# Altium footprint library pads15l_pcb.PcbLib: 13 footprints
Each footprint in its own frame and in the unit in brackets; x right, y up, seen from the top. Pads: shape width x height; smd on the part's side, far side on the other; paste and mask are expansions set on the pad; w line width, h text height; cw(c..) or ccw(c..) is an arc to the next point about the centre after c.
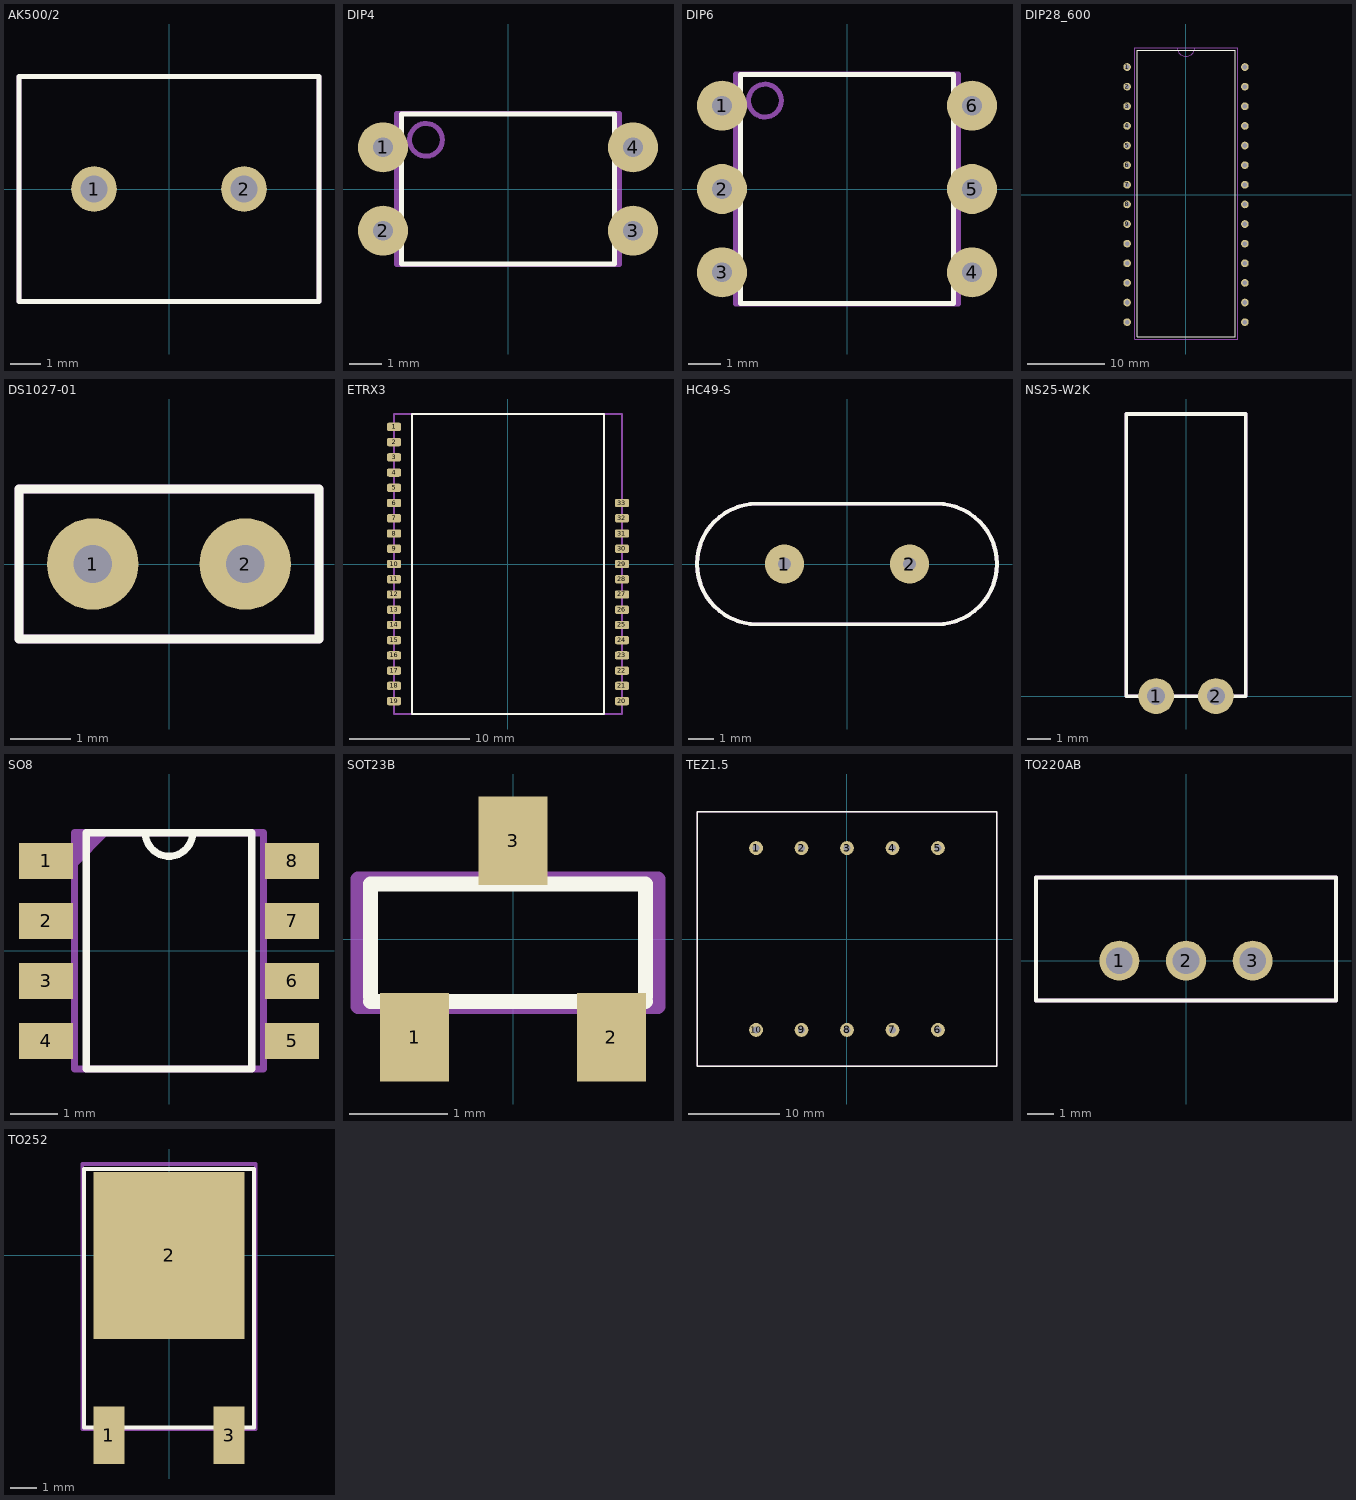
[diagram p0: the footprints below, top view; thin cyan lines are the x and y axes]

## AK500/2 [mm] "AK500/2 connector"
pads (2):
  round 1.524 hole 0.9: 1(-2.5,0) 2(2.5,0)
Top Overlay:
  lines w0.152: -5,-3.75 -5,3.75 5,3.75 5,-3.75 -5,-3.75
Mechanical 13:
  lines w0.152: -5,-3.75 -5,3.75 5,3.75 5,-3.75 -5,-3.75
3D body: height 10, standoff 0, extent -5,-3.75 5,3.75

## DIP4 [mil] "Casing DIP4"
pads (4):
  round 60 hole 23.62: 1(-150,50) 2(-150,-50) 3(150,-50) 4(150,50)
Top Overlay:
  lines w6: -127.95,-90.16 -127.95,90.16 127.95,90.16 127.95,-90.16 -127.95,-90.16
Mechanical 13:
  circle w6: c-98.43,59.06 r19.69
  lines w6: -133.86,-90.75 -133.86,90.75 133.86,90.75 133.86,-90.75 -133.86,-90.75
3D body: height 169.29, standoff -106.3, extent -155.12,-90.36 155.11,90.37

## DIP6 [mil] "Casing DIP6"
pads (6):
  round 60 hole 23.62: 1(-150,100) 2(-150,0) 3(-150,-100) 4(150,-100) 5(150,0) 6(150,100)
Top Overlay:
  lines w6: -127.95,-137.2 -127.95,137.2 127.95,137.2 127.95,-137.2 -127.95,-137.2
Mechanical 13:
  circle w6: c-98.43,106.1 r19.69
  lines w6: -133.86,-137.8 -133.86,137.8 133.86,137.8 133.86,-137.8 -133.86,-137.8
3D body: height 208.66, standoff -78.74, extent -154.92,-138.58 154.92,141.73

## DIP28_600 [mm] "DIP28 for ATmega8L-8PU"
height 4.45
pads (28):
  round 1 hole 0.6: 1(-7.62,16.51) 2(-7.62,13.97) 3(-7.62,11.43) 4(-7.62,8.89) 5(-7.62,6.35) 6(-7.62,3.81) 7(-7.62,1.27) 8(-7.62,-1.27) 9(-7.62,-3.81) 10(-7.62,-6.35) 11(-7.62,-8.89) 12(-7.62,-11.43) 13(-7.62,-13.97) 14(-7.62,-16.51) 15(7.62,-16.51) 16(7.62,-13.97) 17(7.62,-11.43) 18(7.62,-8.89) 19(7.62,-6.35) 20(7.62,-3.81) 21(7.62,-1.27) 22(7.62,1.27) 23(7.62,3.81) 24(7.62,6.35) 25(7.62,8.89) 26(7.62,11.43) 27(7.62,13.97) 28(7.62,16.51)
Top Overlay:
  lines w0.152: -6.32,-18.39 6.38,-18.39 6.38,18.71 -6.32,18.71 -6.32,-18.39
Mechanical 13:
  lines w0.152: -1.127,19.01 ccw(c0,19.01) 1.127,19.01 ; -6.62,-18.69 -6.62,19.01 6.68,19.01 6.68,-18.69 -6.62,-18.69
3D body: height 5.7, standoff -2.58, extent -7.8,-18.6 7.69,18.7

## DS1027-01 [mil] "2.54 mm Jumper"
pads (2):
  round 60 hole 25.2: 1(-50,0) 2(50,0)
Top Overlay:
  lines w6: -98.43,-49.21 -98.43,49.21 98.43,49.21 98.43,-49.21 -98.43,-49.21
Mechanical 13:
  lines w6: -98.43,-49.21 -98.43,49.21 98.43,49.21 98.43,-49.21 -98.43,-49.21
3D body: height 295.28, standoff 0, extent -98.43,-49.21 98.43,49.21

## ETRX3 [mm] "Casing for ETRX3 modules"
pads (33):
  rrect50% 1.2x0.7 smd: 1(-9.5,11.43) 2(-9.5,10.16) 3(-9.5,8.89) 4(-9.5,7.62) 5(-9.5,6.35) 6(-9.5,5.08) 7(-9.5,3.81) 8(-9.5,2.54) 9(-9.5,1.27) 10(-9.5,0) 11(-9.5,-1.27) 12(-9.5,-2.54) 13(-9.5,-3.81) 14(-9.5,-5.08) 15(-9.5,-6.35) 16(-9.5,-7.62) 17(-9.5,-8.89) 18(-9.5,-10.16) 19(-9.5,-11.43) 20(9.5,-11.43) 21(9.5,-10.16) 22(9.5,-8.89) 23(9.5,-7.62) 24(9.5,-6.35) 25(9.5,-5.08) 26(9.5,-3.81) 27(9.5,-2.54) 28(9.5,-1.27) 29(9.5,0) 30(9.5,1.27) 31(9.5,2.54) 32(9.5,3.81) 33(9.5,5.08)
Top Overlay:
  lines w0.152: -8,-12.5 8,-12.5 8,12.5 -8,12.5 -8,-12.5
Mechanical 13:
  lines w0.152: -9.5,-12.5 -9.5,12.5 9.5,12.5 9.5,-12.5 -9.5,-12.5
3D body: height 3.8, standoff 0, extent -9.5,-12.5 9.5,12.5

## HC49-S [mm] "Casing HC49-S for quartz crystals"
pads (2):
  round 1.524 hole 0.5: 1(-2.44,0) 2(2.44,0)
Top Overlay:
  lines w0.152: -3.5,-2.35 cw(c-3.5,0) -3.5,2.35 3.5,2.35 cw(c3.5,0) 3.5,-2.35 -3.5,-2.35
Mechanical 13:
  lines w0.152: -3.5,-2.35 cw(c-3.5,0) -3.5,2.35 3.5,2.35 cw(c3.5,0) 3.5,-2.35 -3.5,-2.35
3D body: height 3.6, standoff -3, extent -5.49,-2.245 5.49,2.246

## NS25-W2K [mil] "2-pin connector"
pads (2):
  round 60 hole 30: 1(-50,0) 2(50,0)
Top Overlay:
  lines w6: -100,0 100,0 100,472.44 -100,472.44 -100,0
Mechanical 13:
  lines w6: -100,0 100,0 100,472.44 -100,472.44 -100,0
3D body: height 232.28, standoff 0, extent -100,0 100,472.44

## SO8 [mil]
pads (8):
  rect 45x30 smd mask+4: 1(-102.5,75) 2(-102.5,25) 3(-102.5,-25) 4(-102.5,-75) 5(102.5,-75) 6(102.5,-25) 7(102.5,25) 8(102.5,75)
Top Overlay:
  lines w6: -19.68,98.43 ccw(c0,98.43) 19.68,98.43 ; -68.9,-98.43 -68.9,98.43 68.9,98.43 68.9,-98.43 -68.9,-98.43
Mechanical 13:
  region: -78.74,98.43 -49.21,98.43 -78.74,68.9
  lines w6: -78.74,-98.43 78.74,-98.43 78.74,98.43 -78.74,98.43 -78.74,-98.43
3D body: height 63.49, standoff -5.94, extent -120.8,-96.26 120.8,96.25

## SOT23B [mm] "3-pin casing SOT23B"
pads (3):
  rect 0.7x0.9 smd: 1(-1,-1) 2(1,-1) 3(0,1)
Top Overlay:
  lines w0.152: -1.448,-0.635 1.346,-0.635 ; -1.448,-0.584 -1.448,0.559 1.346,0.559 1.346,-0.584
Mechanical 13:
  lines w0.152: -1.575,-0.686 1.473,-0.686 ; -1.575,-0.66 -1.575,0.61 1.473,0.61 1.473,-0.66
3D body: height 1.1, standoff 0, extent -1.5,-1.272 1.5,1.27

## TEZ1.5 [mm]
height 22
pads (10):
  round 1.524 hole 0.8: 1(-10,10) 2(-5,10) 3(0,10) 4(5,10) 5(10,10) 6(10,-10) 7(5,-10) 8(0,-10) 9(-5,-10) 10(-10,-10)
Top Overlay:
  lines w0.152: -16.5,-14 16.5,-14 16.5,14 -16.5,14 -16.5,-14
Mechanical 13:
  lines w0.152: 11.5,14 16.5,14 ; 16.5,14 16.5,-14 -16.5,-14 -16.5,14 16.5,14
3D body: height 22, standoff 0, extent -16.5,-14 16.5,14

## TO220AB [mil] "Casing TO220AB"
pads (3):
  round 60 hole 40: 1(-100,0) 2(0,0) 3(100,0)
Top Overlay:
  lines w6: -225,-60 225,-60 225,125 -225,125 -225,-60
Mechanical 13:
  lines w6: -225,-60 225,-60 225,125 -225,125 -225,-60
3D body: height 804.72, standoff -350, extent -220.73,-58.86 220.73,125.79

## TO252 [mm] "TO252 case"
pads (3):
  rect 1.2x2.2 smd: 1(-2.3,-6.9) 3(2.3,-6.9)
  rect 5.8x6.4 smd: 2(0,0)
Top Overlay:
  lines w0.152: -3.25,-6.6 3.25,-6.6 3.25,3.3 -3.25,3.3 -3.25,-6.6
Mechanical 13:
  lines w0.152: -3.325,-6.65 3.325,-6.65 3.325,3.5 -3.325,3.5 -3.325,-6.65
3D body: height 2.41, standoff 0.01, extent -3.367,-6.598 3.367,3.502